# Altium integrated library Linear Technology Power Management Switching Regulator LTC1174-LTC3901.IntLib: 2647 symbols (part 100 of 364)
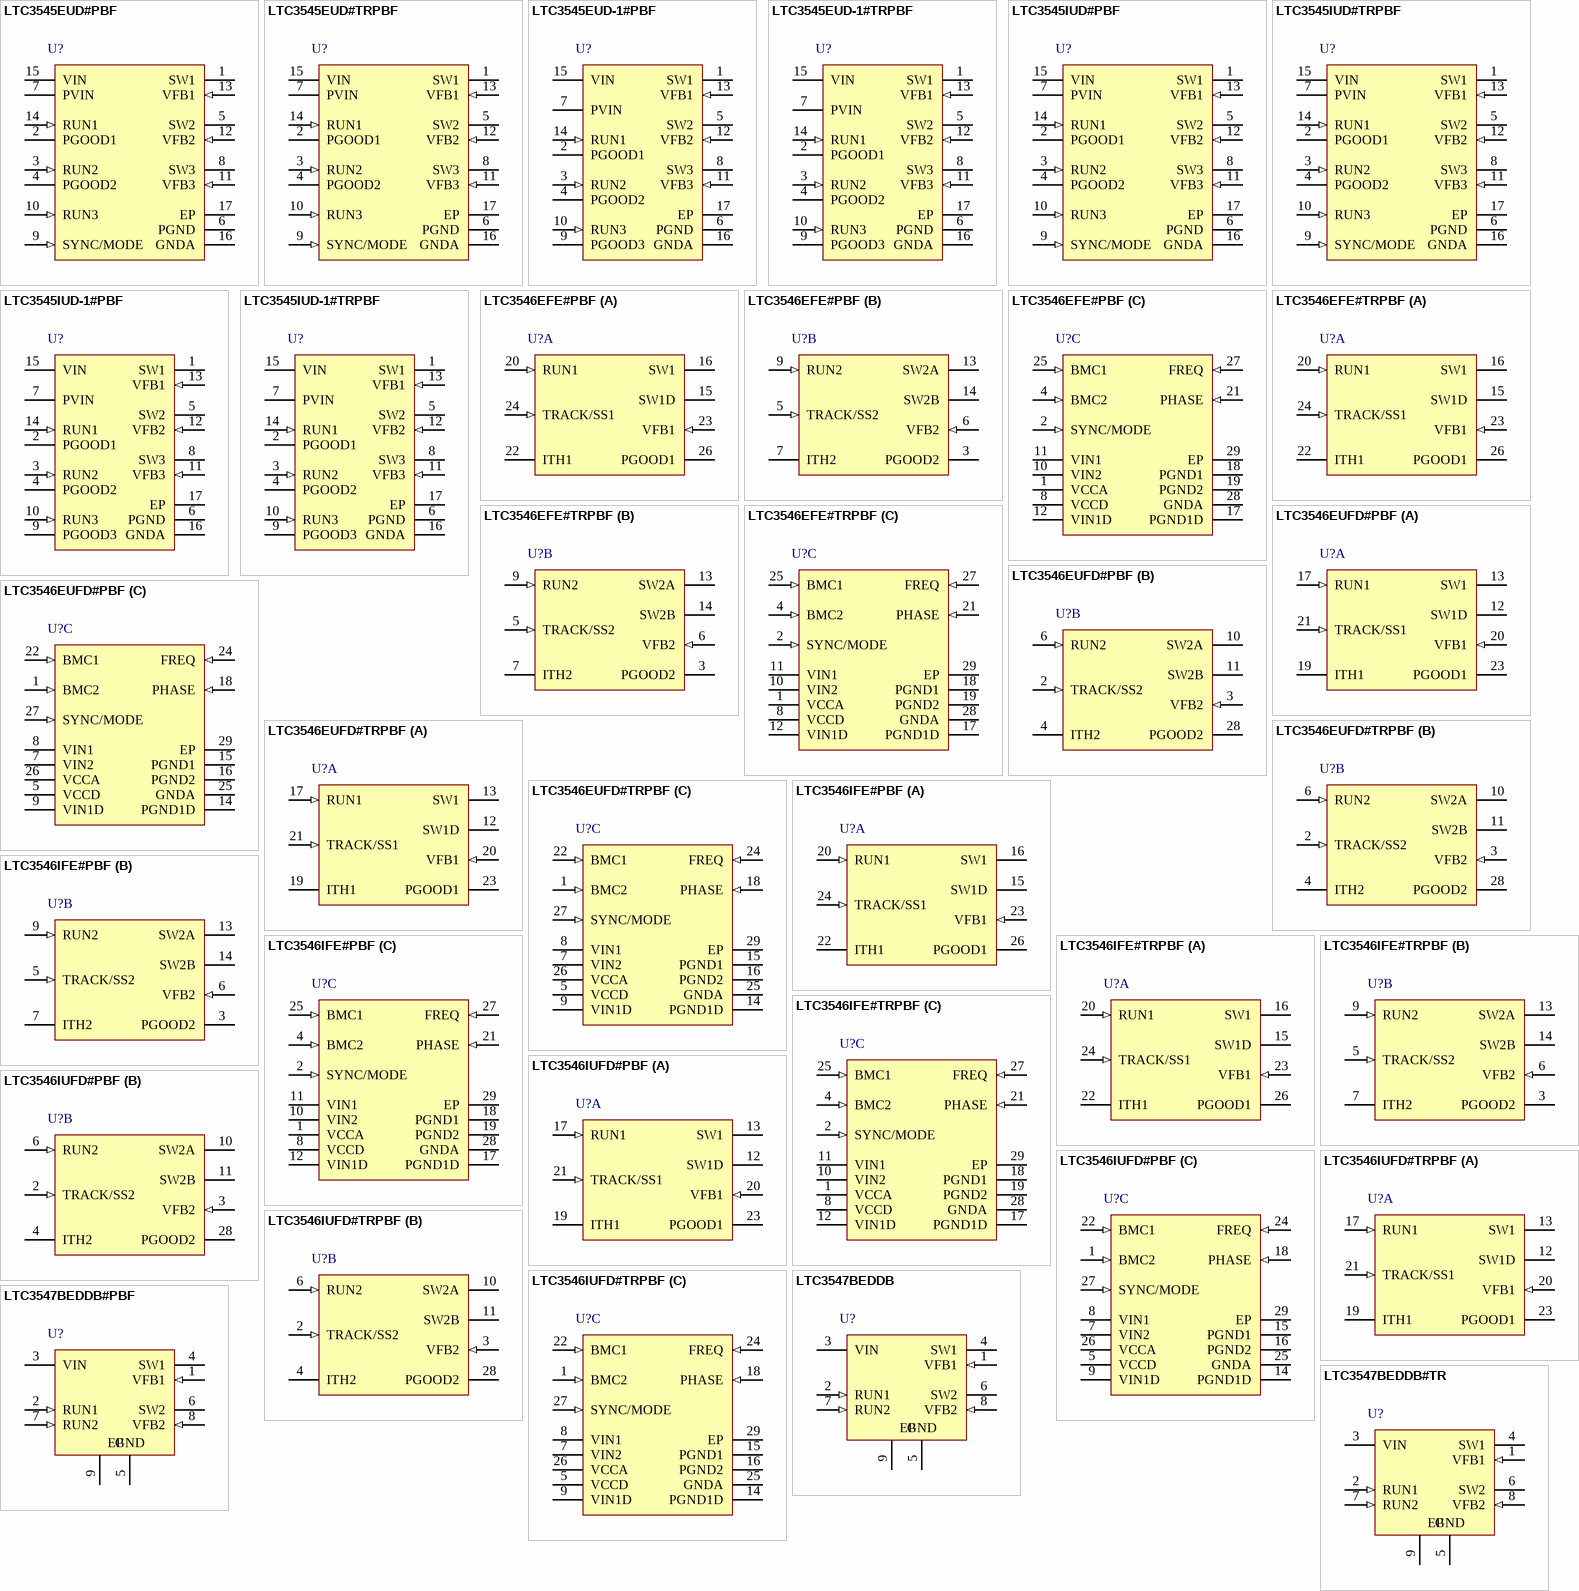
[diagram p166: symbols LTC3545EUD#PBF to LTC3547BEDDB#TR]

## LTC3545IUD#PBF
designator U?
Triple 800 mA Synchronous Step-Down Regulator - 2.25 MHz, 16-pin QFN (UD-16-EPV-AA), -40 to 125 degC, Pb-Free; Manufacturer: Linear Technology; PartNumber: LTC3545IUD#PBF; Number of Outputs: 3; DatasheetVersion: Rev. B; PackageVersion: Rev. A, 06/2010; PackageReference: UD-16; PackageDescription: 16-Pin Plastic QFN, Body 3 x 3 mm, Pitch 0.5 mm; Supplier 1: Digi-Key; Supplier Part Number 1: LTC3545IUD#PBF-ND; Supplier 2: Newark; Supplier Part Number 2: 02P7573; RoHS: TRUE; Mounting Technology: Surface Mount; Code_JEDEC: MO-220; ComponentLink1Description: Manufacturer URL; ComponentLink1URL: http://www.linear.com/; ComponentLink2Description: Datasheet; ComponentLink2URL: http://cds.linear.com/docs/en/datasheet/35451fb.pdf; ComponentLink3Description: Package Specification; ComponentLink3URL: http://cds.linear.com/docs/en/packaging/QFN_16_05-08-1700.pdf
footprint LT-UD-16-EPV-AA_N (QFN, 16-Leads, Body 3.1x3.1mm, Pitch 0.5mm, Thermal Pad 1.65x1.65mm, IPC Medium Density)
footprint LT-UD-16-EPV-AA_L (QFN, 16-Leads, Body 3.1x3.1mm, Pitch 0.5mm, Thermal Pad 1.65x1.65mm, IPC High Density)
footprint LT-UD-16-EPV-AA_M (QFN, 16-Leads, Body 3.1x3.1mm, Pitch 0.5mm, Thermal Pad 1.65x1.65mm, IPC Low Density)
pins: 1 SW1 (power) "Switch Node Connection to Inductor for Regulator 1. This pin connects to the internal power MOSFET switches.", 2 PGOOD1 (oc) "This open-drain output voltage is pulled to a logic low when VFB1 is below 0.54V (VOUT1 is below 90% of regulated level).", 3 RUN2 (in) "Regulator 2 Enable Pin. Apply a voltage greater than VRUN(HIGH) to enable this regulator", 4 PGOOD2 (oc) "This open-drain output voltage is pulled to a logic low when VFB2 is below 0.54V (VOUT2 is below 90% of regulated level).", 5 SW2 (power) "Switch Node Connection to Inductor for Regulator 2. This pin connects to the internal power MOSFET switches.", 6 PGND (power) "Regulators 2 and 3 Power Path Return.", 7 PVIN (power) "Power Path Supply Pin for Regulators 2 and 3. This pin must be closely decoupled to PGND, with a 4.7uF or greater ceramic capacitor.", 8 SW3 (power) "Switch Node Connection to Inductor for Regulator 3. This pin connects to the internal power MOSFET switches.", 9 SYNC/MODE (in) "This open-Mode Select and External Clock Input. When pulled low, part operates in Burst Mode operation. When pulled high, part operates in pulse skipping mode. When driven by a 1MHz to 3MHz external clock, the part operates (See Datasheet)", 10 RUN3 (in) "Regulator 3 Enable Pin. Apply a voltage greater than VRUN(HIGH) to enable this regulator", 11 VFB3 (in) "Regulator 3 Feedback Pin. This pin receives the feedback voltage from an external resistive divider across the output.", 12 VFB2 (in) "Regulator 2 Feedback Pin. This pin receives the feedback voltage from an external resistive divider across the output.", 13 VFB1 (in) "Regulator 1 Feedback Pin. This pin receives the feedback voltage from an external resistive divider across the output.", 14 RUN1 (in) "Regulator 1 Enable Pin. Apply a voltage greater than VRUN(HIGH) to enable this regulator", 15 VIN (power) "Supply Pin for Internal Reference and Control Circuitry. Power path supply for regulator 1.", 16 GNDA (power) "Ground Pin for Internal Reference and Control Circuitry. Power path return for regulator 1.", 17 EP (power) "GND. Must be soldered to the PCB."

## LTC3545IUD#TRPBF
designator U?
Triple 800 mA Synchronous Step-Down Regulator - 2.25 MHz, 16-pin QFN (UD-16-EPV-AA), -40 to 125 degC, Pb-Free, Tape and Reel; Manufacturer: Linear Technology; PartNumber: LTC3545IUD#TRPBF; Number of Outputs: 3; DatasheetVersion: Rev. B; PackageVersion: Rev. A, 06/2010; PackageReference: UD-16; PackageDescription: 16-Pin Plastic QFN, Body 3 x 3 mm, Pitch 0.5 mm; Supplier 1: Digi-Key; Supplier Part Number 1: LTC3545IUD#TRPBF-ND; Supplier 2: Newark; Supplier Part Number 2: 02P7574; Packing: Tape and Reel; RoHS: TRUE; Mounting Technology: Surface Mount; Code_JEDEC: MO-220; ComponentLink1Description: Manufacturer URL; ComponentLink1URL: http://www.linear.com/; ComponentLink2Description: Datasheet; ComponentLink2URL: http://cds.linear.com/docs/en/datasheet/35451fb.pdf; ComponentLink3Description: Package Specification; ComponentLink3URL: http://cds.linear.com/docs/en/packaging/QFN_16_05-08-1700.pdf
footprint LT-UD-16-EPV-AA_N (QFN, 16-Leads, Body 3.1x3.1mm, Pitch 0.5mm, Thermal Pad 1.65x1.65mm, IPC Medium Density)
footprint LT-UD-16-EPV-AA_L (QFN, 16-Leads, Body 3.1x3.1mm, Pitch 0.5mm, Thermal Pad 1.65x1.65mm, IPC High Density)
footprint LT-UD-16-EPV-AA_M (QFN, 16-Leads, Body 3.1x3.1mm, Pitch 0.5mm, Thermal Pad 1.65x1.65mm, IPC Low Density)
pins: 1 SW1 (power) "Switch Node Connection to Inductor for Regulator 1. This pin connects to the internal power MOSFET switches.", 2 PGOOD1 (oc) "This open-drain output voltage is pulled to a logic low when VFB1 is below 0.54V (VOUT1 is below 90% of regulated level).", 3 RUN2 (in) "Regulator 2 Enable Pin. Apply a voltage greater than VRUN(HIGH) to enable this regulator", 4 PGOOD2 (oc) "This open-drain output voltage is pulled to a logic low when VFB2 is below 0.54V (VOUT2 is below 90% of regulated level).", 5 SW2 (power) "Switch Node Connection to Inductor for Regulator 2. This pin connects to the internal power MOSFET switches.", 6 PGND (power) "Regulators 2 and 3 Power Path Return.", 7 PVIN (power) "Power Path Supply Pin for Regulators 2 and 3. This pin must be closely decoupled to PGND, with a 4.7uF or greater ceramic capacitor.", 8 SW3 (power) "Switch Node Connection to Inductor for Regulator 3. This pin connects to the internal power MOSFET switches.", 9 SYNC/MODE (in) "This open-Mode Select and External Clock Input. When pulled low, part operates in Burst Mode operation. When pulled high, part operates in pulse skipping mode. When driven by a 1MHz to 3MHz external clock, the part operates (See Datasheet)", 10 RUN3 (in) "Regulator 3 Enable Pin. Apply a voltage greater than VRUN(HIGH) to enable this regulator", 11 VFB3 (in) "Regulator 3 Feedback Pin. This pin receives the feedback voltage from an external resistive divider across the output.", 12 VFB2 (in) "Regulator 2 Feedback Pin. This pin receives the feedback voltage from an external resistive divider across the output.", 13 VFB1 (in) "Regulator 1 Feedback Pin. This pin receives the feedback voltage from an external resistive divider across the output.", 14 RUN1 (in) "Regulator 1 Enable Pin. Apply a voltage greater than VRUN(HIGH) to enable this regulator", 15 VIN (power) "Supply Pin for Internal Reference and Control Circuitry. Power path supply for regulator 1.", 16 GNDA (power) "Ground Pin for Internal Reference and Control Circuitry. Power path return for regulator 1.", 17 EP (power) "GND. Must be soldered to the PCB."

## LTC3545IUD-1#PBF
designator U?
Triple 800 mA Synchronous Step-Down Regulator - 2.25 MHz, 16-pin QFN (UD-16-EPV-AA), -40 to 125 degC, Pb-Free; Manufacturer: Linear Technology; PartNumber: LTC3545IUD-1#PBF; Number of Outputs: 3; DatasheetVersion: Rev. B; PackageVersion: Rev. A, 06/2010; PackageReference: UD-16; PackageDescription: 16-Pin Plastic QFN, Body 3 x 3 mm, Pitch 0.5 mm; Supplier 1: Digi-Key; Supplier Part Number 1: LTC3545IUD-1#PBF-ND; Supplier 2: Farnell; Supplier Part Number 2: 2295073; RoHS: TRUE; Mounting Technology: Surface Mount; Code_JEDEC: MO-220; ComponentLink1Description: Manufacturer URL; ComponentLink1URL: http://www.linear.com/; ComponentLink2Description: Datasheet; ComponentLink2URL: http://cds.linear.com/docs/en/datasheet/35451fb.pdf; ComponentLink3Description: Package Specification; ComponentLink3URL: http://cds.linear.com/docs/en/packaging/QFN_16_05-08-1700.pdf
footprint LT-UD-16-EPV-AA_N (QFN, 16-Leads, Body 3.1x3.1mm, Pitch 0.5mm, Thermal Pad 1.65x1.65mm, IPC Medium Density)
footprint LT-UD-16-EPV-AA_L (QFN, 16-Leads, Body 3.1x3.1mm, Pitch 0.5mm, Thermal Pad 1.65x1.65mm, IPC High Density)
footprint LT-UD-16-EPV-AA_M (QFN, 16-Leads, Body 3.1x3.1mm, Pitch 0.5mm, Thermal Pad 1.65x1.65mm, IPC Low Density)
pins: 1 SW1 (power) "Switch Node Connection to Inductor for Regulator 1. This pin connects to the internal power MOSFET switches.", 2 PGOOD1 (oc) "This open-drain output voltage is pulled to a logic low when VFB1 is below 0.54V (VOUT1 is below 90% of regulated level).", 3 RUN2 (in) "Regulator 2 Enable Pin. Apply a voltage greater than VRUN(HIGH) to enable this regulator", 4 PGOOD2 (oc) "This open-drain output voltage is pulled to a logic low when VFB2 is below 0.54V (VOUT2 is below 90% of regulated level).", 5 SW2 (power) "Switch Node Connection to Inductor for Regulator 2. This pin connects to the internal power MOSFET switches.", 6 PGND (power) "Regulators 2 and 3 Power Path Return.", 7 PVIN (power) "Power Path Supply Pin for Regulators 2 and 3. This pin must be closely decoupled to PGND, with a 4.7uF or greater ceramic capacitor.", 8 SW3 (power) "Switch Node Connection to Inductor for Regulator 3. This pin connects to the internal power MOSFET switches.", 9 PGOOD3 (oc) "This open-drain output voltage is pulled to a logic low when VFB3 is below 0.54V (VOUT3 is below 90% of regulated level). The LTC3545-1 operates in Burst Mode operation only.", 10 RUN3 (in) "Regulator 3 Enable Pin. Apply a voltage greater than VRUN(HIGH) to enable this regulator", 11 VFB3 (in) "Regulator 3 Feedback Pin. This pin receives the feedback voltage from an external resistive divider across the output.", 12 VFB2 (in) "Regulator 2 Feedback Pin. This pin receives the feedback voltage from an external resistive divider across the output.", 13 VFB1 (in) "Regulator 1 Feedback Pin. This pin receives the feedback voltage from an external resistive divider across the output.", 14 RUN1 (in) "Regulator 1 Enable Pin. Apply a voltage greater than VRUN(HIGH) to enable this regulator", 15 VIN (power) "Supply Pin for Internal Reference and Control Circuitry. Power path supply for regulator 1.", 16 GNDA (power) "Ground Pin for Internal Reference and Control Circuitry. Power path return for regulator 1.", 17 EP (power) "GND. Must be soldered to the PCB."

## LTC3545IUD-1#TRPBF
designator U?
Triple 800 mA Synchronous Step-Down Regulator - 2.25 MHz, 16-pin QFN (UD-16-EPV-AA), -40 to 125 degC, Pb-Free, Tape and Reel; Manufacturer: Linear Technology; PartNumber: LTC3545IUD-1#TRPBF; Number of Outputs: 3; DatasheetVersion: Rev. B; PackageVersion: Rev. A, 06/2010; PackageReference: UD-16; PackageDescription: 16-Pin Plastic QFN, Body 3 x 3 mm, Pitch 0.5 mm; Supplier 1: Digi-Key; Supplier Part Number 1: LTC3545IUD-1#TRPBF-ND; Packing: Tape and Reel; RoHS: TRUE; Mounting Technology: Surface Mount; Code_JEDEC: MO-220; ComponentLink1Description: Manufacturer URL; ComponentLink1URL: http://www.linear.com/; ComponentLink2Description: Datasheet; ComponentLink2URL: http://cds.linear.com/docs/en/datasheet/35451fb.pdf; ComponentLink3Description: Package Specification; ComponentLink3URL: http://cds.linear.com/docs/en/packaging/QFN_16_05-08-1700.pdf
footprint LT-UD-16-EPV-AA_N (QFN, 16-Leads, Body 3.1x3.1mm, Pitch 0.5mm, Thermal Pad 1.65x1.65mm, IPC Medium Density)
footprint LT-UD-16-EPV-AA_L (QFN, 16-Leads, Body 3.1x3.1mm, Pitch 0.5mm, Thermal Pad 1.65x1.65mm, IPC High Density)
footprint LT-UD-16-EPV-AA_M (QFN, 16-Leads, Body 3.1x3.1mm, Pitch 0.5mm, Thermal Pad 1.65x1.65mm, IPC Low Density)
pins: 1 SW1 (power) "Switch Node Connection to Inductor for Regulator 1. This pin connects to the internal power MOSFET switches.", 2 PGOOD1 (oc) "This open-drain output voltage is pulled to a logic low when VFB1 is below 0.54V (VOUT1 is below 90% of regulated level).", 3 RUN2 (in) "Regulator 2 Enable Pin. Apply a voltage greater than VRUN(HIGH) to enable this regulator", 4 PGOOD2 (oc) "This open-drain output voltage is pulled to a logic low when VFB2 is below 0.54V (VOUT2 is below 90% of regulated level).", 5 SW2 (power) "Switch Node Connection to Inductor for Regulator 2. This pin connects to the internal power MOSFET switches.", 6 PGND (power) "Regulators 2 and 3 Power Path Return.", 7 PVIN (power) "Power Path Supply Pin for Regulators 2 and 3. This pin must be closely decoupled to PGND, with a 4.7uF or greater ceramic capacitor.", 8 SW3 (power) "Switch Node Connection to Inductor for Regulator 3. This pin connects to the internal power MOSFET switches.", 9 PGOOD3 (oc) "This open-drain output voltage is pulled to a logic low when VFB3 is below 0.54V (VOUT3 is below 90% of regulated level). The LTC3545-1 operates in Burst Mode operation only.", 10 RUN3 (in) "Regulator 3 Enable Pin. Apply a voltage greater than VRUN(HIGH) to enable this regulator", 11 VFB3 (in) "Regulator 3 Feedback Pin. This pin receives the feedback voltage from an external resistive divider across the output.", 12 VFB2 (in) "Regulator 2 Feedback Pin. This pin receives the feedback voltage from an external resistive divider across the output.", 13 VFB1 (in) "Regulator 1 Feedback Pin. This pin receives the feedback voltage from an external resistive divider across the output.", 14 RUN1 (in) "Regulator 1 Enable Pin. Apply a voltage greater than VRUN(HIGH) to enable this regulator", 15 VIN (power) "Supply Pin for Internal Reference and Control Circuitry. Power path supply for regulator 1.", 16 GNDA (power) "Ground Pin for Internal Reference and Control Circuitry. Power path return for regulator 1.", 17 EP (power) "GND. Must be soldered to the PCB."

## LTC3546EFE#PBF
designator U?
Dual Synchronous, 3 A / 1 A or 2 A / 2 A Configurable Step-Down DC/DC Regulator, 28-pin SOP (FE-28-EPV-EB), -40 to 85 degC, Pb-Free; Manufacturer: Linear Technology; PartNumber: LTC3546EFE#PBF; Frequency Adjust Range: 750kHz - 4MHz; Number of Outputs: 2; DatasheetVersion: Rev. C; PackageVersion: Rev. J, 11/2012; PackageReference: FE-28; PackageDescription: 28-Pin Plastic TSSOP, Body 9.7 x 4.4 mm, Pitch 0.65 mm; Supplier 1: Digi-Key; Supplier Part Number 1: LTC3546EFE#PBF-ND; Supplier 2: Farnell; Supplier Part Number 2: 1839212; Supplier 3: Newark; Supplier Part Number 3: 53R1595; RoHS: TRUE; Mounting Technology: Surface Mount; ComponentLink1Description: Manufacturer URL; ComponentLink1URL: http://www.linear.com/; ComponentLink2Description: Datasheet; ComponentLink2URL: http://cds.linear.com/docs/en/datasheet/3546fc.pdf; ComponentLink3Description: Package Specification; ComponentLink3URL: http://cds.linear.com/docs/en/packaging/05081663__J_FE28(EB).pdf
footprint LT-FE-28-EPV-EB_N (SOP, 28-Leads, Body 9.8x4.5mm, Pitch 0.65mm, Thermal Pad 4.75x2.74mm, IPC Medium Density)
footprint LT-FE-28-EPV-EB_L (SOP, 28-Leads, Body 9.8x4.5mm, Pitch 0.65mm, Thermal Pad 4.75x2.74mm, IPC High Density)
footprint LT-FE-28-EPV-EB_M (SOP, 28-Leads, Body 9.8x4.5mm, Pitch 0.65mm, Thermal Pad 4.75x2.74mm, IPC Low Density)
part A pins: 15 SW1D (power) "The Dependent Switch Node Connection. The pin is externally connected to SW1 for a 2A/2A regulator or to SW2A/B for a 3A/1A regulator. Internal circuitry detects which pin SW1D is externally connected to, SW1 or SW2A/B. This (See Datasheet)", 16 SW1 (power) "The switch node connection to the Inductor for the Channel 1 regulator. This pin swings from VIN1 to PGND1.", 20 RUN1 (in) "Low Level Logic Input. Enable for Channel 1. When pulled high, regulator is running. When at 0V, regulator is off. When both RUN1 and RUN2 are at 0V the part is in shutdown.", 22 ITH1 "Error Amplifier Compensation for Channel 1. Peak current increases with an increase in the voltage on this pin. Nominal voltage range for this pin is 0V to 1.5V.", 23 VFB1 (in) "Feedback voltage from external resistive divider from Channel 1 output. Nominal voltage for this pin is 0.6V.", 24 TRACK/SS1 (in) "Tracking input for Channel 1 output or optional external soft-start input. VOUT1 will track an external voltage at this pin. Leaving this pin floating allows VOUT1 to start-up using the internal soft-start. An external (See Datasheet)", 26 PGOOD1 (oc) "Power Good Pin for the 1A Regulator. This common drain logic output is pulled to GND when the output voltage of Channel 1 is below -8% of regulation."
part B pins: 3 PGOOD2 (oc) "Power Good Pin for Channel 2 This common drain logic output is pulled to GND when the output voltage of Channel 2 is below -8% of regulation.", 5 TRACK/SS2 (in) "Tracking input for Channel 2 output or optional external soft-start input. VOUT2 will track an external voltage at this pin. Leaving this pin floating allows VOUT2 to start-up using the internal soft-start. An external (See Datasheet)", 6 VFB2 (in) "Feedback voltage from external resistive divider from the Channel 2 regulator output. Nominal voltage for this pin is 0.6V.", 7 ITH2 "Error Amplifier Compensation for Channel 2 Regulator. Peak current increases with an increase in the voltage on this pin. Nominal voltage range for this pin is 0V to 1.5V.", 9 RUN2 (in) "Low Level Logic Input. Enable for Channel 2. When pulled high, regulator is running. When at 0V, regulator is off. When both RUN1 and RUN2 are at 0V the part is in shutdown.", 13 SW2A (power) "Half of the switch node connection to the inductor for Channel 2. SW2A and SW2B must be externally tied together. This pin swings from VIN2 to PGND2.", 14 SW2B (power) "Half of the switch node connection to the inductor for Channel 2 SW2A and SW2B must be externally tied together. This pin swings from VIN2 to PGND2."
part C pins: 1 VCCA (power) "Supply Pin for Internal Analog Circuitry.", 2 SYNC/MODE (in) "Combination Mode Selection and Oscillator Synchronization Pin. This pin controls the operation of the device. When the voltage on the SYNC/MODE pin is > (VIN - 0.5V), Burst Mode operation is selected for both regulators. (See Datasheet)", 4 BMC2 (in) "Burst Mode Clamp for Channel 2. Connecting this pin to an external voltage between 0V and 0.6V sets the Burst Mode clamp level. If this pin is pulled to VCCA, an internal Burst Mode clamp level is used. This pin should be (See Datasheet)", 8 VCCD (power) "Supply Pin for Internal Digital Circuitry.", 10 VIN2 (power) "Supply pin for 2A P-channel switch which connects from VIN2 to SW2A/B.", 11 VIN1 (power) "Supply pin for 1A P-channel switch which connects from VIN1 to SW1.", 12 VIN1D (power) "Supply pin for 1A dependent P-channel switch which connects from VIN1D to SW1D.", 17 PGND1D (power) "Ground for SW1D Switching N-Channel Driver.", 18 PGND1 (power) "Ground for SW1 Switching NChannel Driver.", 19 PGND2 (power) "Ground for SW2A and SW2B Switching N-Channel Driver.", 21 PHASE (in) "Low Level Logic Input. Selects Channel 2 regulator switching phase with respect to Channel 1 regulator switching. When pulled high, the SW1 regulator and the SW2A/B regulator are in phase. When PHASE is at 0V the SW1 (See Datasheet)", 25 BMC1 (in) "Burst Mode Clamp for Channel 1. Connecting this pin to an external voltage between 0V and 0.6V sets the Burst Mode clamp level. If this pin is pulled to VCCA, an internal Burst Mode clamp level is used. This pin should be (See Datasheet)", 27 FREQ (in) "Frequency Set Pin. When FREQ is at VCCA, the internal oscillator runs at 2.25MHz. When a resistor is connected from this pin to GNDA, the internal oscillator frequency can be varied from 0.75MHz to 4MHz. When using external (See Datasheet)", 28 GNDA (power) "Ground Pin for Internal Analog Circuitry.", 29 EP (power) "Digital Ground. Connect to Electrical Ground for substrate and internal digital circuitry. Solder to PCB for rated thermal performance."

## LTC3546EFE#TRPBF
designator U?
Dual Synchronous, 3 A / 1 A or 2 A / 2 A Configurable Step-Down DC/DC Regulator, 28-pin SOP (FE-28-EPV-EB), -40 to 85 degC, Pb-Free, Tape and Reel; Manufacturer: Linear Technology; PartNumber: LTC3546EFE#TRPBF; Frequency Adjust Range: 750kHz - 4MHz; Number of Outputs: 2; DatasheetVersion: Rev. C; PackageVersion: Rev. J, 11/2012; PackageReference: FE-28; PackageDescription: 28-Pin Plastic TSSOP, Body 9.7 x 4.4 mm, Pitch 0.65 mm; Supplier 1: Digi-Key; Supplier Part Number 1: LTC3546EFE#TRPBF-ND; Packing: Tape and Reel; RoHS: TRUE; Mounting Technology: Surface Mount; ComponentLink1Description: Manufacturer URL; ComponentLink1URL: http://www.linear.com/; ComponentLink2Description: Datasheet; ComponentLink2URL: http://cds.linear.com/docs/en/datasheet/3546fc.pdf; ComponentLink3Description: Package Specification; ComponentLink3URL: http://cds.linear.com/docs/en/packaging/05081663__J_FE28(EB).pdf
footprint LT-FE-28-EPV-EB_N (SOP, 28-Leads, Body 9.8x4.5mm, Pitch 0.65mm, Thermal Pad 4.75x2.74mm, IPC Medium Density)
footprint LT-FE-28-EPV-EB_L (SOP, 28-Leads, Body 9.8x4.5mm, Pitch 0.65mm, Thermal Pad 4.75x2.74mm, IPC High Density)
footprint LT-FE-28-EPV-EB_M (SOP, 28-Leads, Body 9.8x4.5mm, Pitch 0.65mm, Thermal Pad 4.75x2.74mm, IPC Low Density)
part A pins: 15 SW1D (power) "The Dependent Switch Node Connection. The pin is externally connected to SW1 for a 2A/2A regulator or to SW2A/B for a 3A/1A regulator. Internal circuitry detects which pin SW1D is externally connected to, SW1 or SW2A/B. This (See Datasheet)", 16 SW1 (power) "The switch node connection to the Inductor for the Channel 1 regulator. This pin swings from VIN1 to PGND1.", 20 RUN1 (in) "Low Level Logic Input. Enable for Channel 1. When pulled high, regulator is running. When at 0V, regulator is off. When both RUN1 and RUN2 are at 0V the part is in shutdown.", 22 ITH1 "Error Amplifier Compensation for Channel 1. Peak current increases with an increase in the voltage on this pin. Nominal voltage range for this pin is 0V to 1.5V.", 23 VFB1 (in) "Feedback voltage from external resistive divider from Channel 1 output. Nominal voltage for this pin is 0.6V.", 24 TRACK/SS1 (in) "Tracking input for Channel 1 output or optional external soft-start input. VOUT1 will track an external voltage at this pin. Leaving this pin floating allows VOUT1 to start-up using the internal soft-start. An external (See Datasheet)", 26 PGOOD1 (oc) "Power Good Pin for the 1A Regulator. This common drain logic output is pulled to GND when the output voltage of Channel 1 is below -8% of regulation."
part B pins: 3 PGOOD2 (oc) "Power Good Pin for Channel 2 This common drain logic output is pulled to GND when the output voltage of Channel 2 is below -8% of regulation.", 5 TRACK/SS2 (in) "Tracking input for Channel 2 output or optional external soft-start input. VOUT2 will track an external voltage at this pin. Leaving this pin floating allows VOUT2 to start-up using the internal soft-start. An external (See Datasheet)", 6 VFB2 (in) "Feedback voltage from external resistive divider from the Channel 2 regulator output. Nominal voltage for this pin is 0.6V.", 7 ITH2 "Error Amplifier Compensation for Channel 2 Regulator. Peak current increases with an increase in the voltage on this pin. Nominal voltage range for this pin is 0V to 1.5V.", 9 RUN2 (in) "Low Level Logic Input. Enable for Channel 2. When pulled high, regulator is running. When at 0V, regulator is off. When both RUN1 and RUN2 are at 0V the part is in shutdown.", 13 SW2A (power) "Half of the switch node connection to the inductor for Channel 2. SW2A and SW2B must be externally tied together. This pin swings from VIN2 to PGND2.", 14 SW2B (power) "Half of the switch node connection to the inductor for Channel 2 SW2A and SW2B must be externally tied together. This pin swings from VIN2 to PGND2."
part C pins: 1 VCCA (power) "Supply Pin for Internal Analog Circuitry.", 2 SYNC/MODE (in) "Combination Mode Selection and Oscillator Synchronization Pin. This pin controls the operation of the device. When the voltage on the SYNC/MODE pin is > (VIN - 0.5V), Burst Mode operation is selected for both regulators. (See Datasheet)", 4 BMC2 (in) "Burst Mode Clamp for Channel 2. Connecting this pin to an external voltage between 0V and 0.6V sets the Burst Mode clamp level. If this pin is pulled to VCCA, an internal Burst Mode clamp level is used. This pin should be (See Datasheet)", 8 VCCD (power) "Supply Pin for Internal Digital Circuitry.", 10 VIN2 (power) "Supply pin for 2A P-channel switch which connects from VIN2 to SW2A/B.", 11 VIN1 (power) "Supply pin for 1A P-channel switch which connects from VIN1 to SW1.", 12 VIN1D (power) "Supply pin for 1A dependent P-channel switch which connects from VIN1D to SW1D.", 17 PGND1D (power) "Ground for SW1D Switching N-Channel Driver.", 18 PGND1 (power) "Ground for SW1 Switching NChannel Driver.", 19 PGND2 (power) "Ground for SW2A and SW2B Switching N-Channel Driver.", 21 PHASE (in) "Low Level Logic Input. Selects Channel 2 regulator switching phase with respect to Channel 1 regulator switching. When pulled high, the SW1 regulator and the SW2A/B regulator are in phase. When PHASE is at 0V the SW1 (See Datasheet)", 25 BMC1 (in) "Burst Mode Clamp for Channel 1. Connecting this pin to an external voltage between 0V and 0.6V sets the Burst Mode clamp level. If this pin is pulled to VCCA, an internal Burst Mode clamp level is used. This pin should be (See Datasheet)", 27 FREQ (in) "Frequency Set Pin. When FREQ is at VCCA, the internal oscillator runs at 2.25MHz. When a resistor is connected from this pin to GNDA, the internal oscillator frequency can be varied from 0.75MHz to 4MHz. When using external (See Datasheet)", 28 GNDA (power) "Ground Pin for Internal Analog Circuitry.", 29 EP (power) "Digital Ground. Connect to Electrical Ground for substrate and internal digital circuitry. Solder to PCB for rated thermal performance."

## LTC3546EUFD#PBF
designator U?
Dual Synchronous, 3 A / 1 A or 2 A / 2 A Configurable Step-Down DC/DC Regulator, 28-pin QFN (UFD-28), -40 to 85 degC, Pb-Free; Manufacturer: Linear Technology; PartNumber: LTC3546EUFD#PBF; Frequency Adjust Range: 750kHz - 4MHz; Number of Outputs: 2; DatasheetVersion: Rev. C; PackageVersion: Rev. B, 06/2010; PackageReference: UFD-28; PackageDescription: 28-Pin Plastic QFN, Body 5 x 4 mm, Pitch 0.5 mm; Supplier 1: Digi-Key; Supplier Part Number 1: LTC3546EUFD#PBF-ND; Supplier 2: Newark; Supplier Part Number 2: 46P4010; RoHS: TRUE; Mounting Technology: Surface Mount; Code_JEDEC: MO-220; ComponentLink1Description: Manufacturer URL; ComponentLink1URL: http://www.linear.com/; ComponentLink2Description: Datasheet; ComponentLink2URL: http://cds.linear.com/docs/en/datasheet/3546fc.pdf; ComponentLink3Description: Package Specification; ComponentLink3URL: http://cds.linear.com/docs/en/packaging/QFN_28_05-08-1712.pdf
footprint LT-UFD-28_N (QFN, 28-Leads, Body 5.1x4.1mm, Pitch 0.5mm, Thermal Pad 3.65x2.65mm, IPC Medium Density)
footprint LT-UFD-28_L (QFN, 28-Leads, Body 5.1x4.1mm, Pitch 0.5mm, Thermal Pad 3.65x2.65mm, IPC High Density)
footprint LT-UFD-28_M (QFN, 28-Leads, Body 5.1x4.1mm, Pitch 0.5mm, Thermal Pad 3.65x2.65mm, IPC Low Density)
part A pins: 12 SW1D (power) "The Dependent Switch Node Connection. The pin is externally connected to SW1 for a 2A/2A regulator or to SW2A/B for a 3A/1A regulator. Internal circuitry detects which pin SW1D is externally connected to, SW1 or SW2A/B. This (See Datasheet)", 13 SW1 (power) "The switch node connection to the Inductor for the Channel 1 regulator. This pin swings from VIN1 to PGND1.", 17 RUN1 (in) "Low Level Logic Input. Enable for Channel 1. When pulled high, regulator is running. When at 0V, regulator is off. When both RUN1 and RUN2 are at 0V the part is in shutdown.", 19 ITH1 "Error Amplifier Compensation for Channel 1. Peak current increases with an increase in the voltage on this pin. Nominal voltage range for this pin is 0V to 1.5V.", 20 VFB1 (in) "Feedback voltage from external resistive divider from Channel 1 output. Nominal voltage for this pin is 0.6V.", 21 TRACK/SS1 (in) "Tracking input for Channel 1 output or optional external soft-start input. VOUT1 will track an external voltage at this pin. Leaving this pin floating allows VOUT1 to start-up using the internal soft-start. An external (See Datasheet)", 23 PGOOD1 (oc) "Power Good Pin for the 1A Regulator. This common drain logic output is pulled to GND when the output voltage of Channel 1 is below -8% of regulation."
part B pins: 2 TRACK/SS2 (in) "Tracking input for Channel 2 output or optional external soft-start input. VOUT2 will track an external voltage at this pin. Leaving this pin floating allows VOUT2 to start-up using the internal soft-start. An external (See Datasheet)", 3 VFB2 (in) "Feedback voltage from external resistive divider from the Channel 2 regulator output. Nominal voltage for this pin is 0.6V.", 4 ITH2 "Error Amplifier Compensation for Channel 2 Regulator. Peak current increases with an increase in the voltage on this pin. Nominal voltage range for this pin is 0V to 1.5V.", 6 RUN2 (in) "Low Level Logic Input. Enable for Channel 2. When pulled high, regulator is running. When at 0V, regulator is off. When both RUN1 and RUN2 are at 0V the part is in shutdown.", 10 SW2A (power) "Half of the switch node connection to the inductor for Channel 2. SW2A and SW2B must be externally tied together. This pin swings from VIN2 to PGND2.", 11 SW2B (power) "Half of the switch node connection to the inductor for Channel 2 SW2A and SW2B must be externally tied together. This pin swings from VIN2 to PGND2.", 28 PGOOD2 (oc) "Power Good Pin for Channel 2 This common drain logic output is pulled to GND when the output voltage of Channel 2 is below -8% of regulation."
part C pins: 1 BMC2 (in) "Burst Mode Clamp for Channel 2. Connecting this pin to an external voltage between 0V and 0.6V sets the Burst Mode clamp level. If this pin is pulled to VCCA, an internal Burst Mode clamp level is used. This pin should be (See Datasheet)", 5 VCCD (power) "Supply Pin for Internal Digital Circuitry.", 7 VIN2 (power) "Supply pin for 2A P-channel switch which connects from VIN2 to SW2A/B.", 8 VIN1 (power) "Supply pin for 1A P-channel switch which connects from VIN1 to SW1.", 9 VIN1D (power) "Supply pin for 1A dependent P-channel switch which connects from VIN1D to SW1D.", 14 PGND1D (power) "Ground for SW1D Switching N-Channel Driver.", 15 PGND1 (power) "Ground for SW1 Switching NChannel Driver.", 16 PGND2 (power) "Ground for SW2A and SW2B Switching N-Channel Driver.", 18 PHASE (in) "Low Level Logic Input. Selects Channel 2 regulator switching phase with respect to Channel 1 regulator switching. When pulled high, the SW1 regulator and the SW2A/B regulator are in phase. When PHASE is at 0V the SW1 (See Datasheet)", 22 BMC1 (in) "Burst Mode Clamp for Channel 1. Connecting this pin to an external voltage between 0V and 0.6V sets the Burst Mode clamp level. If this pin is pulled to VCCA, an internal Burst Mode clamp level is used. This pin should be (See Datasheet)", 24 FREQ (in) "Frequency Set Pin. When FREQ is at VCCA, the internal oscillator runs at 2.25MHz. When a resistor is connected from this pin to GNDA, the internal oscillator frequency can be varied from 0.75MHz to 4MHz. When using external (See Datasheet)", 25 GNDA (power) "Ground Pin for Internal Analog Circuitry.", 26 VCCA (power) "Supply Pin for Internal Analog Circuitry.", 27 SYNC/MODE (in) "Combination Mode Selection and Oscillator Synchronization Pin. This pin controls the operation of the device. When the voltage on the SYNC/MODE pin is > (VIN - 0.5V), Burst Mode operation is selected for both regulators. (See Datasheet)", 29 EP (power) "Digital Ground. Connect to Electrical Ground for substrate and internal digital circuitry. Solder to PCB for rated thermal performance."

## LTC3546EUFD#TRPBF
designator U?
Dual Synchronous, 3 A / 1 A or 2 A / 2 A Configurable Step-Down DC/DC Regulator, 28-pin QFN (UFD-28), -40 to 85 degC, Pb-Free, Tape and Reel; Manufacturer: Linear Technology; PartNumber: LTC3546EUFD#TRPBF; Frequency Adjust Range: 750kHz - 4MHz; Number of Outputs: 2; DatasheetVersion: Rev. C; PackageVersion: Rev. B, 06/2010; PackageReference: UFD-28; PackageDescription: 28-Pin Plastic QFN, Body 5 x 4 mm, Pitch 0.5 mm; Supplier 1: Digi-Key; Supplier Part Number 1: LTC3546EUFD#TRPBF-ND; Supplier 2: Newark; Supplier Part Number 2: 56P3085; Packing: Tape and Reel; RoHS: TRUE; Mounting Technology: Surface Mount; Code_JEDEC: MO-220; ComponentLink1Description: Manufacturer URL; ComponentLink1URL: http://www.linear.com/; ComponentLink2Description: Datasheet; ComponentLink2URL: http://cds.linear.com/docs/en/datasheet/3546fc.pdf; ComponentLink3Description: Package Specification; ComponentLink3URL: http://cds.linear.com/docs/en/packaging/QFN_28_05-08-1712.pdf
footprint LT-UFD-28_N (QFN, 28-Leads, Body 5.1x4.1mm, Pitch 0.5mm, Thermal Pad 3.65x2.65mm, IPC Medium Density)
footprint LT-UFD-28_L (QFN, 28-Leads, Body 5.1x4.1mm, Pitch 0.5mm, Thermal Pad 3.65x2.65mm, IPC High Density)
footprint LT-UFD-28_M (QFN, 28-Leads, Body 5.1x4.1mm, Pitch 0.5mm, Thermal Pad 3.65x2.65mm, IPC Low Density)
part A pins: 12 SW1D (power) "The Dependent Switch Node Connection. The pin is externally connected to SW1 for a 2A/2A regulator or to SW2A/B for a 3A/1A regulator. Internal circuitry detects which pin SW1D is externally connected to, SW1 or SW2A/B. This (See Datasheet)", 13 SW1 (power) "The switch node connection to the Inductor for the Channel 1 regulator. This pin swings from VIN1 to PGND1.", 17 RUN1 (in) "Low Level Logic Input. Enable for Channel 1. When pulled high, regulator is running. When at 0V, regulator is off. When both RUN1 and RUN2 are at 0V the part is in shutdown.", 19 ITH1 "Error Amplifier Compensation for Channel 1. Peak current increases with an increase in the voltage on this pin. Nominal voltage range for this pin is 0V to 1.5V.", 20 VFB1 (in) "Feedback voltage from external resistive divider from Channel 1 output. Nominal voltage for this pin is 0.6V.", 21 TRACK/SS1 (in) "Tracking input for Channel 1 output or optional external soft-start input. VOUT1 will track an external voltage at this pin. Leaving this pin floating allows VOUT1 to start-up using the internal soft-start. An external (See Datasheet)", 23 PGOOD1 (oc) "Power Good Pin for the 1A Regulator. This common drain logic output is pulled to GND when the output voltage of Channel 1 is below -8% of regulation."
part B pins: 2 TRACK/SS2 (in) "Tracking input for Channel 2 output or optional external soft-start input. VOUT2 will track an external voltage at this pin. Leaving this pin floating allows VOUT2 to start-up using the internal soft-start. An external (See Datasheet)", 3 VFB2 (in) "Feedback voltage from external resistive divider from the Channel 2 regulator output. Nominal voltage for this pin is 0.6V.", 4 ITH2 "Error Amplifier Compensation for Channel 2 Regulator. Peak current increases with an increase in the voltage on this pin. Nominal voltage range for this pin is 0V to 1.5V.", 6 RUN2 (in) "Low Level Logic Input. Enable for Channel 2. When pulled high, regulator is running. When at 0V, regulator is off. When both RUN1 and RUN2 are at 0V the part is in shutdown.", 10 SW2A (power) "Half of the switch node connection to the inductor for Channel 2. SW2A and SW2B must be externally tied together. This pin swings from VIN2 to PGND2.", 11 SW2B (power) "Half of the switch node connection to the inductor for Channel 2 SW2A and SW2B must be externally tied together. This pin swings from VIN2 to PGND2.", 28 PGOOD2 (oc) "Power Good Pin for Channel 2 This common drain logic output is pulled to GND when the output voltage of Channel 2 is below -8% of regulation."
part C pins: 1 BMC2 (in) "Burst Mode Clamp for Channel 2. Connecting this pin to an external voltage between 0V and 0.6V sets the Burst Mode clamp level. If this pin is pulled to VCCA, an internal Burst Mode clamp level is used. This pin should be (See Datasheet)", 5 VCCD (power) "Supply Pin for Internal Digital Circuitry.", 7 VIN2 (power) "Supply pin for 2A P-channel switch which connects from VIN2 to SW2A/B.", 8 VIN1 (power) "Supply pin for 1A P-channel switch which connects from VIN1 to SW1.", 9 VIN1D (power) "Supply pin for 1A dependent P-channel switch which connects from VIN1D to SW1D.", 14 PGND1D (power) "Ground for SW1D Switching N-Channel Driver.", 15 PGND1 (power) "Ground for SW1 Switching NChannel Driver.", 16 PGND2 (power) "Ground for SW2A and SW2B Switching N-Channel Driver.", 18 PHASE (in) "Low Level Logic Input. Selects Channel 2 regulator switching phase with respect to Channel 1 regulator switching. When pulled high, the SW1 regulator and the SW2A/B regulator are in phase. When PHASE is at 0V the SW1 (See Datasheet)", 22 BMC1 (in) "Burst Mode Clamp for Channel 1. Connecting this pin to an external voltage between 0V and 0.6V sets the Burst Mode clamp level. If this pin is pulled to VCCA, an internal Burst Mode clamp level is used. This pin should be (See Datasheet)", 24 FREQ (in) "Frequency Set Pin. When FREQ is at VCCA, the internal oscillator runs at 2.25MHz. When a resistor is connected from this pin to GNDA, the internal oscillator frequency can be varied from 0.75MHz to 4MHz. When using external (See Datasheet)", 25 GNDA (power) "Ground Pin for Internal Analog Circuitry.", 26 VCCA (power) "Supply Pin for Internal Analog Circuitry.", 27 SYNC/MODE (in) "Combination Mode Selection and Oscillator Synchronization Pin. This pin controls the operation of the device. When the voltage on the SYNC/MODE pin is > (VIN - 0.5V), Burst Mode operation is selected for both regulators. (See Datasheet)", 29 EP (power) "Digital Ground. Connect to Electrical Ground for substrate and internal digital circuitry. Solder to PCB for rated thermal performance."

## LTC3546IFE#PBF
designator U?
Dual Synchronous, 3 A / 1 A or 2 A / 2 A Configurable Step-Down DC/DC Regulator, 28-pin SOP (FE-28-EPV-EB), -40 to 125 degC, Pb-Free; Manufacturer: Linear Technology; PartNumber: LTC3546IFE#PBF; Frequency Adjust Range: 750kHz - 4MHz; Number of Outputs: 2; DatasheetVersion: Rev. C; PackageVersion: Rev. J, 11/2012; PackageReference: FE-28; PackageDescription: 28-Pin Plastic TSSOP, Body 9.7 x 4.4 mm, Pitch 0.65 mm; Supplier 1: Digi-Key; Supplier Part Number 1: LTC3546IFE#PBF-ND; Supplier 2: Farnell; Supplier Part Number 2: 2295074; Supplier 3: Newark; Supplier Part Number 3: 13T8340; RoHS: TRUE; Mounting Technology: Surface Mount; ComponentLink1Description: Manufacturer URL; ComponentLink1URL: http://www.linear.com/; ComponentLink2Description: Datasheet; ComponentLink2URL: http://cds.linear.com/docs/en/datasheet/3546fc.pdf; ComponentLink3Description: Package Specification; ComponentLink3URL: http://cds.linear.com/docs/en/packaging/05081663__J_FE28(EB).pdf
footprint LT-FE-28-EPV-EB_N (SOP, 28-Leads, Body 9.8x4.5mm, Pitch 0.65mm, Thermal Pad 4.75x2.74mm, IPC Medium Density)
footprint LT-FE-28-EPV-EB_L (SOP, 28-Leads, Body 9.8x4.5mm, Pitch 0.65mm, Thermal Pad 4.75x2.74mm, IPC High Density)
footprint LT-FE-28-EPV-EB_M (SOP, 28-Leads, Body 9.8x4.5mm, Pitch 0.65mm, Thermal Pad 4.75x2.74mm, IPC Low Density)
part A pins: 15 SW1D (power) "The Dependent Switch Node Connection. The pin is externally connected to SW1 for a 2A/2A regulator or to SW2A/B for a 3A/1A regulator. Internal circuitry detects which pin SW1D is externally connected to, SW1 or SW2A/B. This (See Datasheet)", 16 SW1 (power) "The switch node connection to the Inductor for the Channel 1 regulator. This pin swings from VIN1 to PGND1.", 20 RUN1 (in) "Low Level Logic Input. Enable for Channel 1. When pulled high, regulator is running. When at 0V, regulator is off. When both RUN1 and RUN2 are at 0V the part is in shutdown.", 22 ITH1 "Error Amplifier Compensation for Channel 1. Peak current increases with an increase in the voltage on this pin. Nominal voltage range for this pin is 0V to 1.5V.", 23 VFB1 (in) "Feedback voltage from external resistive divider from Channel 1 output. Nominal voltage for this pin is 0.6V.", 24 TRACK/SS1 (in) "Tracking input for Channel 1 output or optional external soft-start input. VOUT1 will track an external voltage at this pin. Leaving this pin floating allows VOUT1 to start-up using the internal soft-start. An external (See Datasheet)", 26 PGOOD1 (oc) "Power Good Pin for the 1A Regulator. This common drain logic output is pulled to GND when the output voltage of Channel 1 is below -8% of regulation."
part B pins: 3 PGOOD2 (oc) "Power Good Pin for Channel 2 This common drain logic output is pulled to GND when the output voltage of Channel 2 is below -8% of regulation.", 5 TRACK/SS2 (in) "Tracking input for Channel 2 output or optional external soft-start input. VOUT2 will track an external voltage at this pin. Leaving this pin floating allows VOUT2 to start-up using the internal soft-start. An external (See Datasheet)", 6 VFB2 (in) "Feedback voltage from external resistive divider from the Channel 2 regulator output. Nominal voltage for this pin is 0.6V.", 7 ITH2 "Error Amplifier Compensation for Channel 2 Regulator. Peak current increases with an increase in the voltage on this pin. Nominal voltage range for this pin is 0V to 1.5V.", 9 RUN2 (in) "Low Level Logic Input. Enable for Channel 2. When pulled high, regulator is running. When at 0V, regulator is off. When both RUN1 and RUN2 are at 0V the part is in shutdown.", 13 SW2A (power) "Half of the switch node connection to the inductor for Channel 2. SW2A and SW2B must be externally tied together. This pin swings from VIN2 to PGND2.", 14 SW2B (power) "Half of the switch node connection to the inductor for Channel 2 SW2A and SW2B must be externally tied together. This pin swings from VIN2 to PGND2."
part C pins: 1 VCCA (power) "Supply Pin for Internal Analog Circuitry.", 2 SYNC/MODE (in) "Combination Mode Selection and Oscillator Synchronization Pin. This pin controls the operation of the device. When the voltage on the SYNC/MODE pin is > (VIN - 0.5V), Burst Mode operation is selected for both regulators. (See Datasheet)", 4 BMC2 (in) "Burst Mode Clamp for Channel 2. Connecting this pin to an external voltage between 0V and 0.6V sets the Burst Mode clamp level. If this pin is pulled to VCCA, an internal Burst Mode clamp level is used. This pin should be (See Datasheet)", 8 VCCD (power) "Supply Pin for Internal Digital Circuitry.", 10 VIN2 (power) "Supply pin for 2A P-channel switch which connects from VIN2 to SW2A/B.", 11 VIN1 (power) "Supply pin for 1A P-channel switch which connects from VIN1 to SW1.", 12 VIN1D (power) "Supply pin for 1A dependent P-channel switch which connects from VIN1D to SW1D.", 17 PGND1D (power) "Ground for SW1D Switching N-Channel Driver.", 18 PGND1 (power) "Ground for SW1 Switching NChannel Driver.", 19 PGND2 (power) "Ground for SW2A and SW2B Switching N-Channel Driver.", 21 PHASE (in) "Low Level Logic Input. Selects Channel 2 regulator switching phase with respect to Channel 1 regulator switching. When pulled high, the SW1 regulator and the SW2A/B regulator are in phase. When PHASE is at 0V the SW1 (See Datasheet)", 25 BMC1 (in) "Burst Mode Clamp for Channel 1. Connecting this pin to an external voltage between 0V and 0.6V sets the Burst Mode clamp level. If this pin is pulled to VCCA, an internal Burst Mode clamp level is used. This pin should be (See Datasheet)", 27 FREQ (in) "Frequency Set Pin. When FREQ is at VCCA, the internal oscillator runs at 2.25MHz. When a resistor is connected from this pin to GNDA, the internal oscillator frequency can be varied from 0.75MHz to 4MHz. When using external (See Datasheet)", 28 GNDA (power) "Ground Pin for Internal Analog Circuitry.", 29 EP (power) "Digital Ground. Connect to Electrical Ground for substrate and internal digital circuitry. Solder to PCB for rated thermal performance."

## LTC3546IFE#TRPBF
designator U?
Dual Synchronous, 3 A / 1 A or 2 A / 2 A Configurable Step-Down DC/DC Regulator, 28-pin SOP (FE-28-EPV-EB), -40 to 125 degC, Pb-Free, Tape and Reel; Manufacturer: Linear Technology; PartNumber: LTC3546IFE#TRPBF; Frequency Adjust Range: 750kHz - 4MHz; Number of Outputs: 2; DatasheetVersion: Rev. C; PackageVersion: Rev. J, 11/2012; PackageReference: FE-28; PackageDescription: 28-Pin Plastic TSSOP, Body 9.7 x 4.4 mm, Pitch 0.65 mm; Supplier 1: Digi-Key; Supplier Part Number 1: LTC3546IFE#TRPBF-ND; Packing: Tape and Reel; RoHS: TRUE; Mounting Technology: Surface Mount; ComponentLink1Description: Manufacturer URL; ComponentLink1URL: http://www.linear.com/; ComponentLink2Description: Datasheet; ComponentLink2URL: http://cds.linear.com/docs/en/datasheet/3546fc.pdf; ComponentLink3Description: Package Specification; ComponentLink3URL: http://cds.linear.com/docs/en/packaging/05081663__J_FE28(EB).pdf
footprint LT-FE-28-EPV-EB_N (SOP, 28-Leads, Body 9.8x4.5mm, Pitch 0.65mm, Thermal Pad 4.75x2.74mm, IPC Medium Density)
footprint LT-FE-28-EPV-EB_L (SOP, 28-Leads, Body 9.8x4.5mm, Pitch 0.65mm, Thermal Pad 4.75x2.74mm, IPC High Density)
footprint LT-FE-28-EPV-EB_M (SOP, 28-Leads, Body 9.8x4.5mm, Pitch 0.65mm, Thermal Pad 4.75x2.74mm, IPC Low Density)
part A pins: 15 SW1D (power) "The Dependent Switch Node Connection. The pin is externally connected to SW1 for a 2A/2A regulator or to SW2A/B for a 3A/1A regulator. Internal circuitry detects which pin SW1D is externally connected to, SW1 or SW2A/B. This (See Datasheet)", 16 SW1 (power) "The switch node connection to the Inductor for the Channel 1 regulator. This pin swings from VIN1 to PGND1.", 20 RUN1 (in) "Low Level Logic Input. Enable for Channel 1. When pulled high, regulator is running. When at 0V, regulator is off. When both RUN1 and RUN2 are at 0V the part is in shutdown.", 22 ITH1 "Error Amplifier Compensation for Channel 1. Peak current increases with an increase in the voltage on this pin. Nominal voltage range for this pin is 0V to 1.5V.", 23 VFB1 (in) "Feedback voltage from external resistive divider from Channel 1 output. Nominal voltage for this pin is 0.6V.", 24 TRACK/SS1 (in) "Tracking input for Channel 1 output or optional external soft-start input. VOUT1 will track an external voltage at this pin. Leaving this pin floating allows VOUT1 to start-up using the internal soft-start. An external (See Datasheet)", 26 PGOOD1 (oc) "Power Good Pin for the 1A Regulator. This common drain logic output is pulled to GND when the output voltage of Channel 1 is below -8% of regulation."
part B pins: 3 PGOOD2 (oc) "Power Good Pin for Channel 2 This common drain logic output is pulled to GND when the output voltage of Channel 2 is below -8% of regulation.", 5 TRACK/SS2 (in) "Tracking input for Channel 2 output or optional external soft-start input. VOUT2 will track an external voltage at this pin. Leaving this pin floating allows VOUT2 to start-up using the internal soft-start. An external (See Datasheet)", 6 VFB2 (in) "Feedback voltage from external resistive divider from the Channel 2 regulator output. Nominal voltage for this pin is 0.6V.", 7 ITH2 "Error Amplifier Compensation for Channel 2 Regulator. Peak current increases with an increase in the voltage on this pin. Nominal voltage range for this pin is 0V to 1.5V.", 9 RUN2 (in) "Low Level Logic Input. Enable for Channel 2. When pulled high, regulator is running. When at 0V, regulator is off. When both RUN1 and RUN2 are at 0V the part is in shutdown.", 13 SW2A (power) "Half of the switch node connection to the inductor for Channel 2. SW2A and SW2B must be externally tied together. This pin swings from VIN2 to PGND2.", 14 SW2B (power) "Half of the switch node connection to the inductor for Channel 2 SW2A and SW2B must be externally tied together. This pin swings from VIN2 to PGND2."
part C pins: 1 VCCA (power) "Supply Pin for Internal Analog Circuitry.", 2 SYNC/MODE (in) "Combination Mode Selection and Oscillator Synchronization Pin. This pin controls the operation of the device. When the voltage on the SYNC/MODE pin is > (VIN - 0.5V), Burst Mode operation is selected for both regulators. (See Datasheet)", 4 BMC2 (in) "Burst Mode Clamp for Channel 2. Connecting this pin to an external voltage between 0V and 0.6V sets the Burst Mode clamp level. If this pin is pulled to VCCA, an internal Burst Mode clamp level is used. This pin should be (See Datasheet)", 8 VCCD (power) "Supply Pin for Internal Digital Circuitry.", 10 VIN2 (power) "Supply pin for 2A P-channel switch which connects from VIN2 to SW2A/B.", 11 VIN1 (power) "Supply pin for 1A P-channel switch which connects from VIN1 to SW1.", 12 VIN1D (power) "Supply pin for 1A dependent P-channel switch which connects from VIN1D to SW1D.", 17 PGND1D (power) "Ground for SW1D Switching N-Channel Driver.", 18 PGND1 (power) "Ground for SW1 Switching NChannel Driver.", 19 PGND2 (power) "Ground for SW2A and SW2B Switching N-Channel Driver.", 21 PHASE (in) "Low Level Logic Input. Selects Channel 2 regulator switching phase with respect to Channel 1 regulator switching. When pulled high, the SW1 regulator and the SW2A/B regulator are in phase. When PHASE is at 0V the SW1 (See Datasheet)", 25 BMC1 (in) "Burst Mode Clamp for Channel 1. Connecting this pin to an external voltage between 0V and 0.6V sets the Burst Mode clamp level. If this pin is pulled to VCCA, an internal Burst Mode clamp level is used. This pin should be (See Datasheet)", 27 FREQ (in) "Frequency Set Pin. When FREQ is at VCCA, the internal oscillator runs at 2.25MHz. When a resistor is connected from this pin to GNDA, the internal oscillator frequency can be varied from 0.75MHz to 4MHz. When using external (See Datasheet)", 28 GNDA (power) "Ground Pin for Internal Analog Circuitry.", 29 EP (power) "Digital Ground. Connect to Electrical Ground for substrate and internal digital circuitry. Solder to PCB for rated thermal performance."